# Altium schematic symbol library WE-PFC.SchLib: 21 symbols
Pins are listed as number, name and electrical type; pins without a type are passive.

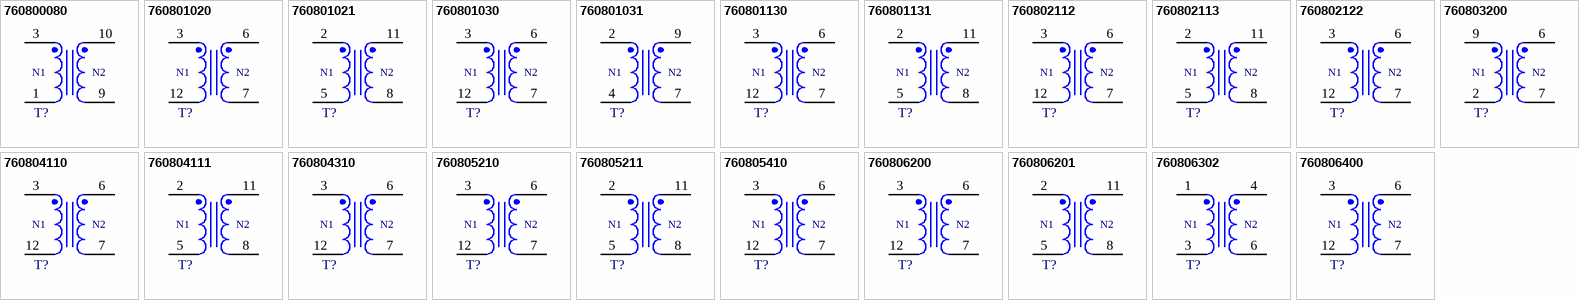
[diagram p0: symbols 760800080 to 760806400]

## 760800080
designator T?, comment 85-265Vin, 25W  (value not drawn)
WE-PFC THT PFC Choke, EE20/10/6, 85-265Vin, 25W, 12.9:1, 1800uH; Manufacturer Part Number: 760800080; Manufacturer: Wurth Elektronik; DC Resistance 1: 1550mOhm; DC Resistance 2: 1200mOhm; Input Voltage: 85-265VAC; Insulation Test Voltage: 1500VAC; Rated Current: 0.3A; Saturation Current: 1A; Category: PFC Chokes; Match Code: WE-PFC; ComponentLink1Description: Website Link; ComponentLink1URL: https://www.we-online.com/redexpert/article/760800080?ad; ComponentLink2Description: Datasheet Link; ComponentLink2URL: https://www.we-online.com/redexpert/spec/760800080?ad; Mount: Through Hole; Operating Temperature Max: 125°C; Operating Temperature Min: -40°C; Packaging: Tray; Case/Size Code: EE20/10/6; Length: 22mm; Width: 23mm; Height: 17.5mm; Inductance: 1800uH; Output Power: 25W; Turns Ratio: 12.9:1
footprint WE-PFC_EE20/10/6
simulation model 760800080
pins: 1, 3, 9, 10
text: N1; N2

## 760801020
designator T?, comment 195-265Vin, 75-100W  (value not drawn)
WE-PFC THT PFC Choke, RM10, 195-265Vin, 75-100W, 12:1, 500uH; Manufacturer Part Number: 760801020; Manufacturer: Wurth Elektronik; DC Resistance 1: 360mOhm; DC Resistance 2: 180mOhm; Input Voltage: 195-265VAC; Insulation Test Voltage: 1500VAC; Rated Current: 0.6A; Saturation Current: 4A; Category: PFC Chokes; Match Code: WE-PFC; ComponentLink1Description: Website Link; ComponentLink1URL: https://www.we-online.com/redexpert/article/760801020?ad; ComponentLink2Description: Datasheet Link; ComponentLink2URL: https://www.we-online.com/redexpert/spec/760801020?ad; Mount: Through Hole; Operating Temperature Max: 125°C; Operating Temperature Min: -40°C; Packaging: Tray; Case/Size Code: RM10; Length: 31mm; Width: 29mm; Height: 20mm; Inductance: 500uH; Output Power: 75-100W; Turns Ratio: 12:1
footprint WE-PFC_RM10
simulation model 760801020
pins: 3, 6, 7, 12
text: N1; N2

## 760801021
designator T?, comment 195-265Vin, 75-100W  (value not drawn)
WE-PFC THT PFC Choke, EFD30, 195-265Vin, 75-100W, 21:2, 500uH; Manufacturer Part Number: 760801021; Manufacturer: Wurth Elektronik; DC Resistance 1: 620mOhm; DC Resistance 2: 540mOhm; Input Voltage: 195-265VAC; Insulation Test Voltage: 1500VAC; Rated Current: 0.6A; Saturation Current: 4.2A; Category: PFC Chokes; Match Code: WE-PFC; ComponentLink1Description: Website Link; ComponentLink1URL: https://www.we-online.com/redexpert/article/760801021?ad; ComponentLink2Description: Datasheet Link; ComponentLink2URL: https://www.we-online.com/redexpert/spec/760801021?ad; Mount: Through Hole; Operating Temperature Max: 125°C; Operating Temperature Min: -40°C; Packaging: Tray; Case/Size Code: EFD30; Length: 31mm; Width: 30mm; Height: 14mm; Inductance: 500uH; Output Power: 75-100W; Turns Ratio: 21:2
footprint WE-PFC_EFD30
simulation model 760801021
pins: 2, 5, 8, 11
text: N1; N2

## 760801030
designator T?, comment 195-265Vin, 75W  (value not drawn)
WE-PFC THT PFC Choke, RM10, 195-265Vin, 75W, 10.71:1, 650uH; Manufacturer Part Number: 760801030; Manufacturer: Wurth Elektronik; DC Resistance 1: 480mOhm; DC Resistance 2: 260mOhm; Input Voltage: 195-265VAC; Insulation Test Voltage: 1500VAC; Rated Current: 0.4A; Saturation Current: 3.9A; Category: PFC Chokes; Match Code: WE-PFC; ComponentLink1Description: Website Link; ComponentLink1URL: https://www.we-online.com/redexpert/article/760801030?ad; ComponentLink2Description: Datasheet Link; ComponentLink2URL: https://www.we-online.com/redexpert/spec/760801030?ad; Mount: Through Hole; Operating Temperature Max: 125°C; Operating Temperature Min: -40°C; Packaging: Tray; Case/Size Code: RM10; Length: 31mm; Width: 29mm; Height: 20mm; Inductance: 650uH; Output Power: 75W; Turns Ratio: 10.71:1
footprint WE-PFC_RM10
simulation model 760801030
pins: 3, 6, 7, 12
text: N1; N2

## 760801031
designator T?, comment 195-265Vin, 75W  (value not drawn)
WE-PFC THT PFC Choke, EFD25, 195-265Vin, 75W, 90:8, 650uH; Manufacturer Part Number: 760801031; Manufacturer: Wurth Elektronik; DC Resistance 1: 1020mOhm; DC Resistance 2: 460mOhm; Input Voltage: 195-265VAC; Insulation Test Voltage: 1500VAC; Rated Current: 0.4A; Saturation Current: 2.6A; Category: PFC Chokes; Match Code: WE-PFC; ComponentLink1Description: Website Link; ComponentLink1URL: https://www.we-online.com/redexpert/article/760801031?ad; ComponentLink2Description: Datasheet Link; ComponentLink2URL: https://www.we-online.com/redexpert/spec/760801031?ad; Mount: Through Hole; Operating Temperature Max: 125°C; Operating Temperature Min: -40°C; Packaging: Tray; Case/Size Code: EFD25; Length: 25.81mm; Width: 25mm; Height: 13.1mm; Inductance: 650uH; Output Power: 75W; Turns Ratio: 90:8
footprint WE-PFC_EFD25
simulation model 760801031
pins: 2, 4, 7, 9
text: N1; N2

## 760801130
designator T?, comment 85-265Vin, 75W  (value not drawn)
WE-PFC THT PFC Choke, RM10, 85-265Vin, 75W, 90:8, 750uH; Manufacturer Part Number: 760801130; Manufacturer: Wurth Elektronik; DC Resistance 1: 720mOhm; DC Resistance 2: 320mOhm; Input Voltage: 85-265VAC; Insulation Test Voltage: 1500VAC; Rated Current: 0.9A; Saturation Current: 3.9A; Category: PFC Chokes; Match Code: WE-PFC; ComponentLink1Description: Website Link; ComponentLink1URL: https://www.we-online.com/redexpert/article/760801130?ad; ComponentLink2Description: Datasheet Link; ComponentLink2URL: https://www.we-online.com/redexpert/spec/760801130?ad; Mount: Through Hole; Operating Temperature Max: 125°C; Operating Temperature Min: -40°C; Packaging: Tray; Case/Size Code: RM10; Length: 31mm; Width: 29mm; Height: 20mm; Inductance: 750uH; Output Power: 75W; Turns Ratio: 90:8
footprint WE-PFC_RM10
simulation model 760801130
pins: 3, 6, 7, 12
text: N1; N2

## 760801131
designator T?, comment 85-265Vin, 75W  (value not drawn)
WE-PFC THT PFC Choke, EFD30, 85-265Vin, 75W, 34:3, 750uH; Manufacturer Part Number: 760801131; Manufacturer: Wurth Elektronik; DC Resistance 1: 950mOhm; DC Resistance 2: 580mOhm; Input Voltage: 85-265VAC; Insulation Test Voltage: 1500VAC; Rated Current: 0.9A; Saturation Current: 3.3A; Category: PFC Chokes; Match Code: WE-PFC; ComponentLink1Description: Website Link; ComponentLink1URL: https://www.we-online.com/redexpert/article/760801131?ad; ComponentLink2Description: Datasheet Link; ComponentLink2URL: https://www.we-online.com/redexpert/spec/760801131?ad; Mount: Through Hole; Operating Temperature Max: 125°C; Operating Temperature Min: -40°C; Packaging: Tray; Case/Size Code: EFD30; Length: 31mm; Width: 30mm; Height: 14mm; Inductance: 750uH; Output Power: 75W; Turns Ratio: 34:3
footprint WE-PFC_EFD30
simulation model 760801131
pins: 2, 5, 8, 11
text: N1; N2

## 760802112
designator T?, comment 195-265Vin, 100-150W  (value not drawn)
WE-PFC THT PFC Choke, RM10, 195-265Vin, 100-150W, 12:1, 375uH; Manufacturer Part Number: 760802112; Manufacturer: Wurth Elektronik; DC Resistance 1: 360mOhm; DC Resistance 2: 180mOhm; Input Voltage: 195-265VAC; Insulation Test Voltage: 1500VAC; Rated Current: 0.8A; Saturation Current: 5.4A; Category: PFC Chokes; Match Code: WE-PFC; ComponentLink1Description: Website Link; ComponentLink1URL: https://www.we-online.com/redexpert/article/760802112?ad; ComponentLink2Description: Datasheet Link; ComponentLink2URL: https://www.we-online.com/redexpert/spec/760802112?ad; Mount: Through Hole; Operating Temperature Max: 125°C; Operating Temperature Min: -40°C; Packaging: Tray; Case/Size Code: RM10; Length: 31mm; Width: 29mm; Height: 20mm; Inductance: 375uH; Output Power: 100-150W; Turns Ratio: 12:1
footprint WE-PFC_RM10
simulation model 760802112
pins: 3, 6, 7, 12
text: N1; N2

## 760802113
designator T?, comment 195-265Vin, 100-150W  (value not drawn)
WE-PFC THT PFC Choke, EFD30, 195-265Vin, 100-150W, 65:6, 375uH; Manufacturer Part Number: 760802113; Manufacturer: Wurth Elektronik; DC Resistance 1: 470mOhm; DC Resistance 2: 390mOhm; Input Voltage: 195-265VAC; Insulation Test Voltage: 1500VAC; Rated Current: 0.8A; Saturation Current: 4A; Category: PFC Chokes; Match Code: WE-PFC; ComponentLink1Description: Website Link; ComponentLink1URL: https://www.we-online.com/redexpert/article/760802113?ad; ComponentLink2Description: Datasheet Link; ComponentLink2URL: https://www.we-online.com/redexpert/spec/760802113?ad; Mount: Through Hole; Operating Temperature Max: 125°C; Operating Temperature Min: -40°C; Packaging: Tray; Case/Size Code: EFD30; Length: 31mm; Width: 30mm; Height: 14mm; Inductance: 375uH; Output Power: 100-150W; Turns Ratio: 65:6
footprint WE-PFC_EFD30
simulation model 760802113
pins: 2, 5, 8, 11
text: N1; N2

## 760802122
designator T?, comment 85-265Vin, 100W  (value not drawn)
WE-PFC THT PFC Choke, RM12, 85-265Vin, 100W, 10:1, 450uH; Manufacturer Part Number: 760802122; Manufacturer: Wurth Elektronik; DC Resistance 1: 330mOhm; DC Resistance 2: 200mOhm; Input Voltage: 85-265VAC; Insulation Test Voltage: 1500VAC; Rated Current: 1.2A; Saturation Current: 5.6A; Category: PFC Chokes; Match Code: WE-PFC; ComponentLink1Description: Website Link; ComponentLink1URL: https://www.we-online.com/redexpert/article/760802122?ad; ComponentLink2Description: Datasheet Link; ComponentLink2URL: https://www.we-online.com/redexpert/spec/760802122?ad; Mount: Through Hole; Operating Temperature Max: 125°C; Operating Temperature Min: -40°C; Packaging: Tray; Case/Size Code: RM12; Length: 41mm; Width: 40mm; Height: 26mm; Inductance: 450uH; Output Power: 100W; Turns Ratio: 10:1
footprint WE-PFC_RM12
simulation model 760802122
pins: 3, 6, 7, 12
text: N1; N2

## 760803200
designator T?, comment 85-265Vin, 125W  (value not drawn)
WE-PFC THT PFC Choke, EER28, 85-265Vin, 125W, 9.17:1, 150uH; Manufacturer Part Number: 760803200; Manufacturer: Wurth Elektronik; DC Resistance 1: 190mOhm; DC Resistance 2: 140mOhm; Input Voltage: 85-265VAC; Insulation Test Voltage: 800VAC; Rated Current: 1.5A; Saturation Current: 12A; Category: PFC Chokes; Match Code: WE-PFC; ComponentLink1Description: Website Link; ComponentLink1URL: https://www.we-online.com/redexpert/article/760803200?ad; ComponentLink2Description: Datasheet Link; ComponentLink2URL: https://www.we-online.com/redexpert/spec/760803200?ad; Mount: Through Hole; Operating Temperature Max: 125°C; Operating Temperature Min: -40°C; Packaging: Tray; Case/Size Code: EER28; Length: 32mm; Width: 33mm; Height: 23mm; Inductance: 150uH; Output Power: 125W; Turns Ratio: 9.17:1
footprint WE-PFC_EER28
simulation model 760803200
pins: 2, 6, 7, 9
text: N1; N2

## 760804110
designator T?, comment 195-265Vin, 150-200W  (value not drawn)
WE-PFC THT PFC Choke, RM10, 195-265Vin, 150-200W, 44:5, 250uH; Manufacturer Part Number: 760804110; Manufacturer: Wurth Elektronik; DC Resistance 1: 150mOhm; DC Resistance 2: 200mOhm; Input Voltage: 195-265VAC; Insulation Test Voltage: 1500VAC; Rated Current: 1.1A; Saturation Current: 5.6A; Category: PFC Chokes; Match Code: WE-PFC; ComponentLink1Description: Website Link; ComponentLink1URL: https://www.we-online.com/redexpert/article/760804110?ad; ComponentLink2Description: Datasheet Link; ComponentLink2URL: https://www.we-online.com/redexpert/spec/760804110?ad; Mount: Through Hole; Operating Temperature Max: 125°C; Operating Temperature Min: -40°C; Packaging: Tray; Case/Size Code: RM10; Length: 31mm; Width: 29mm; Height: 20mm; Inductance: 250uH; Output Power: 150-200W; Turns Ratio: 44:5
footprint WE-PFC_RM10
simulation model 760804110
pins: 3, 6, 7, 12
text: N1; N2

## 760804111
designator T?, comment 195-265Vin, 150-200W  (value not drawn)
WE-PFC THT PFC Choke, EFD30, 195-265Vin, 150-200W, 50:5, 250uH; Manufacturer Part Number: 760804111; Manufacturer: Wurth Elektronik; DC Resistance 1: 300mOhm; DC Resistance 2: 350mOhm; Input Voltage: 195-265VAC; Insulation Test Voltage: 1500VAC; Rated Current: 1.1A; Saturation Current: 4.8A; Category: PFC Chokes; Match Code: WE-PFC; ComponentLink1Description: Website Link; ComponentLink1URL: https://www.we-online.com/redexpert/article/760804111?ad; ComponentLink2Description: Datasheet Link; ComponentLink2URL: https://www.we-online.com/redexpert/spec/760804111?ad; Mount: Through Hole; Operating Temperature Max: 125°C; Operating Temperature Min: -40°C; Packaging: Tray; Case/Size Code: EFD30; Length: 31mm; Width: 30mm; Height: 14mm; Inductance: 250uH; Output Power: 150-200W; Turns Ratio: 50:5
footprint WE-PFC_EFD30
simulation model 760804111
pins: 2, 5, 8, 11
text: N1; N2

## 760804310
designator T?, comment 85-265Vin, 150-200W  (value not drawn)
WE-PFC THT PFC Choke, RM12, 85-265Vin, 150-200W, 52:5, 300uH; Manufacturer Part Number: 760804310; Manufacturer: Wurth Elektronik; DC Resistance 1: 170mOhm; DC Resistance 2: 250mOhm; Input Voltage: 85-265VAC; Insulation Test Voltage: 1500VAC; Rated Current: 2.4A; Saturation Current: 9.6A; Category: PFC Chokes; Match Code: WE-PFC; ComponentLink1Description: Website Link; ComponentLink1URL: https://www.we-online.com/redexpert/article/760804310?ad; ComponentLink2Description: Datasheet Link; ComponentLink2URL: https://www.we-online.com/redexpert/spec/760804310?ad; Mount: Through Hole; Operating Temperature Max: 125°C; Operating Temperature Min: -40°C; Packaging: Tray; Case/Size Code: RM12; Length: 41mm; Width: 40mm; Height: 26mm; Inductance: 300uH; Output Power: 150-200W; Turns Ratio: 52:5
footprint WE-PFC_RM12
simulation model 760804310
pins: 3, 6, 7, 12
text: N1; N2

## 760805210
designator T?, comment 195-265Vin, 200-250W  (value not drawn)
WE-PFC THT PFC Choke, RM12, 195-265Vin, 200-250W, 39:5, 200uH; Manufacturer Part Number: 760805210; Manufacturer: Wurth Elektronik; DC Resistance 1: 120mOhm; DC Resistance 2: 250mOhm; Input Voltage: 195-265VAC; Insulation Test Voltage: 1500VAC; Rated Current: 1.4A; Saturation Current: 8.4A; Category: PFC Chokes; Match Code: WE-PFC; ComponentLink1Description: Website Link; ComponentLink1URL: https://www.we-online.com/redexpert/article/760805210?ad; ComponentLink2Description: Datasheet Link; ComponentLink2URL: https://www.we-online.com/redexpert/spec/760805210?ad; Mount: Through Hole; Operating Temperature Max: 125°C; Operating Temperature Min: -40°C; Packaging: Tray; Case/Size Code: RM12; Length: 41mm; Width: 40mm; Height: 26mm; Inductance: 200uH; Output Power: 200-250W; Turns Ratio: 39:5
footprint WE-PFC_RM12
simulation model 760805210
pins: 3, 6, 7, 12
text: N1; N2

## 760805211
designator T?, comment 195-265Vin, 200-250W  (value not drawn)
WE-PFC THT PFC Choke, EFD30, 195-265Vin, 200-250W, 50:5, 200uH; Manufacturer Part Number: 760805211; Manufacturer: Wurth Elektronik; DC Resistance 1: 300mOhm; DC Resistance 2: 350mOhm; Input Voltage: 195-265VAC; Insulation Test Voltage: 1500VAC; Rated Current: 1.4A; Saturation Current: 6A; Category: PFC Chokes; Match Code: WE-PFC; ComponentLink1Description: Website Link; ComponentLink1URL: https://www.we-online.com/redexpert/article/760805211?ad; ComponentLink2Description: Datasheet Link; ComponentLink2URL: https://www.we-online.com/redexpert/spec/760805211?ad; Mount: Through Hole; Operating Temperature Max: 125°C; Operating Temperature Min: -40°C; Packaging: Tray; Case/Size Code: EFD30; Length: 31mm; Width: 30mm; Height: 14mm; Inductance: 200uH; Output Power: 200-250W; Turns Ratio: 50:5
footprint WE-PFC_EFD30
simulation model 760805211
pins: 2, 5, 8, 11
text: N1; N2

## 760805410
designator T?, comment 85-265Vin, 200W  (value not drawn)
WE-PFC THT PFC Choke, RM14, 85-265Vin, 200W, 39:4, 225uH; Manufacturer Part Number: 760805410; Manufacturer: Wurth Elektronik; DC Resistance 1: 87mOhm; DC Resistance 2: 200mOhm; Input Voltage: 85-265VAC; Insulation Test Voltage: 1500VAC; Rated Current: 2.4A; Saturation Current: 12.4A; Category: PFC Chokes; Match Code: WE-PFC; ComponentLink1Description: Website Link; ComponentLink1URL: https://www.we-online.com/redexpert/article/760805410?ad; ComponentLink2Description: Datasheet Link; ComponentLink2URL: https://www.we-online.com/redexpert/spec/760805410?ad; Mount: Through Hole; Operating Temperature Max: 125°C; Operating Temperature Min: -40°C; Packaging: Tray; Case/Size Code: RM14; Length: 48mm; Width: 43mm; Height: 32mm; Inductance: 225uH; Output Power: 200W; Turns Ratio: 39:4
footprint WE-PFC_RM14
simulation model 760805410
pins: 3, 6, 7, 12
text: N1; N2

## 760806200
designator T?, comment 195-265Vin, 250W  (value not drawn)
WE-PFC THT PFC Choke, RM12, 195-265Vin, 250W, 33:4, 150uH; Manufacturer Part Number: 760806200; Manufacturer: Wurth Elektronik; DC Resistance 1: 80mOhm; DC Resistance 2: 180mOhm; Input Voltage: 195-265VAC; Insulation Test Voltage: 1500VAC; Rated Current: 1.4A; Saturation Current: 11A; Category: PFC Chokes; Match Code: WE-PFC; ComponentLink1Description: Website Link; ComponentLink1URL: https://www.we-online.com/redexpert/article/760806200?ad; ComponentLink2Description: Datasheet Link; ComponentLink2URL: https://www.we-online.com/redexpert/spec/760806200?ad; Mount: Through Hole; Operating Temperature Max: 125°C; Operating Temperature Min: -40°C; Packaging: Tray; Case/Size Code: RM12; Length: 41mm; Width: 40mm; Height: 26mm; Inductance: 150uH; Output Power: 250W; Turns Ratio: 33:4
footprint WE-PFC_RM12
simulation model 760806200
pins: 3, 6, 7, 12
text: N1; N2

## 760806201
designator T?, comment 195-265Vin, 250W  (value not drawn)
WE-PFC THT PFC Choke, EFD30, 195-265Vin, 250W, 42:5, 150uH; Manufacturer Part Number: 760806201; Manufacturer: Wurth Elektronik; DC Resistance 1: 190mOhm; DC Resistance 2: 350mOhm; Input Voltage: 195-265VAC; Insulation Test Voltage: 1500VAC; Rated Current: 1.4A; Saturation Current: 6.8A; Category: PFC Chokes; Match Code: WE-PFC; ComponentLink1Description: Website Link; ComponentLink1URL: https://www.we-online.com/redexpert/article/760806201?ad; ComponentLink2Description: Datasheet Link; ComponentLink2URL: https://www.we-online.com/redexpert/spec/760806201?ad; Mount: Through Hole; Operating Temperature Max: 125°C; Operating Temperature Min: -40°C; Packaging: Tray; Case/Size Code: EFD30; Length: 31mm; Width: 30mm; Height: 14mm; Inductance: 150uH; Output Power: 250W; Turns Ratio: 42:5
footprint WE-PFC_EFD30
simulation model 760806201
pins: 2, 5, 8, 11
text: N1; N2

## 760806302
designator T?, comment 85-265Vin, 250W  (value not drawn)
WE-PFC THT PFC Choke, PQ38/11, 85-265Vin, 250W, 8.75:1, 300uH; Manufacturer Part Number: 760806302; Manufacturer: Wurth Elektronik; DC Resistance 1: 197.3mOhm; DC Resistance 2: 310mOhm; Input Voltage: 85-265VAC; Insulation Test Voltage: 1500VAC; Rated Current: 3A; Saturation Current: 5.1A; Category: PFC Chokes; Match Code: WE-PFC; ComponentLink1Description: Website Link; ComponentLink1URL: https://www.we-online.com/redexpert/article/760806302?ad; ComponentLink2Description: Datasheet Link; ComponentLink2URL: https://www.we-online.com/redexpert/spec/760806302?ad; Mount: Through Hole; Operating Temperature Max: 125°C; Operating Temperature Min: -40°C; Packaging: Tray; Case/Size Code: PQ38/11; Length: 38mm; Width: 47mm; Height: 14mm; Inductance: 300uH; Output Power: 250W; Turns Ratio: 8.75:1
footprint WE-PFC_PQ38/11
simulation model 760806302
pins: 1, 3, 4, 6
text: N1; N2

## 760806400
designator T?, comment 85-265Vin, 250W  (value not drawn)
WE-PFC THT PFC Choke, RM14, 85-265Vin, 250W, 9:1, 180uH; Manufacturer Part Number: 760806400; Manufacturer: Wurth Elektronik; DC Resistance 1: 78mOhm; DC Resistance 2: 200mOhm; Input Voltage: 85-265VAC; Insulation Test Voltage: 1500VAC; Rated Current: 3A; Saturation Current: 13.2A; Category: PFC Chokes; Match Code: WE-PFC; ComponentLink1Description: Website Link; ComponentLink1URL: https://www.we-online.com/redexpert/article/760806400?ad; ComponentLink2Description: Datasheet Link; ComponentLink2URL: https://www.we-online.com/redexpert/spec/760806400?ad; Mount: Through Hole; Operating Temperature Max: 125°C; Operating Temperature Min: -40°C; Packaging: Tray; Case/Size Code: RM14; Length: 48mm; Width: 43mm; Height: 32mm; Inductance: 180uH; Output Power: 250W; Turns Ratio: 9:1
footprint WE-PFC_RM14
simulation model 760806400
pins: 3, 6, 7, 12
text: N1; N2